# Altium footprint library IPC-7359 QFN_Sq_50P_Side_N.PcbLib: 92 footprints (part 5 of 6)
Each footprint in its own frame and in the unit in brackets; x right, y up, seen from the top. Pads: shape width x height; smd on the part's side, far side on the other; paste and mask are expansions set on the pad; w line width, h text height; cw(c..) or ccw(c..) is an arc to the next point about the centre after c.
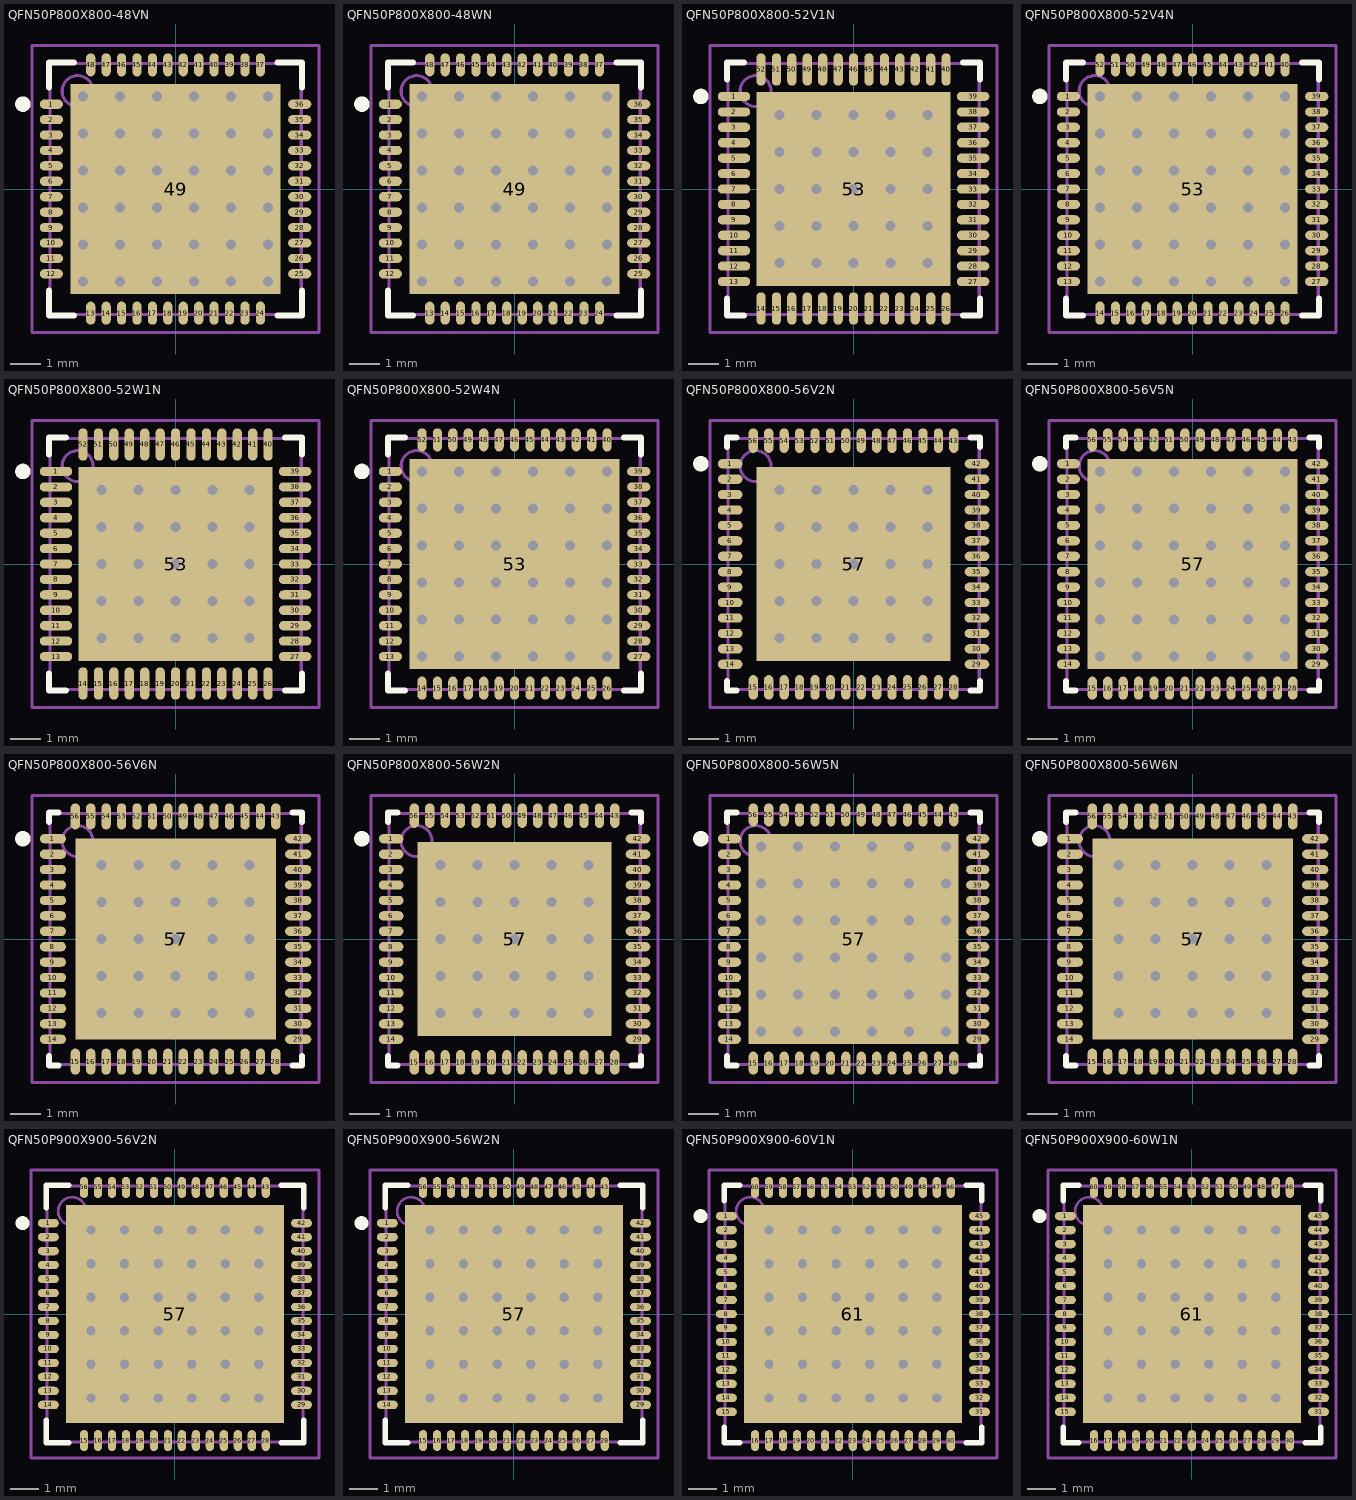
[diagram p4: the footprints below, top view; thin cyan lines are the x and y axes]

## QFN50P800X800-48VN [mm] "QFN, 48-Leads, Body 8x8mm, Pitch 0.5mm, IPC Medium Density"
height 1
pads (49):
  oval 0.75x0.3 smd: 1(-4.025,2.75) 2(-4.025,2.25) 3(-4.025,1.75) 4(-4.025,1.25) 5(-4.025,0.75) 6(-4.025,0.25) 7(-4.025,-0.25) 8(-4.025,-0.75) 9(-4.025,-1.25) 10(-4.025,-1.75) 11(-4.025,-2.25) 12(-4.025,-2.75) 25(4.025,-2.75) 26(4.025,-2.25) 27(4.025,-1.75) 28(4.025,-1.25) 29(4.025,-0.75) 30(4.025,-0.25) 31(4.025,0.25) 32(4.025,0.75) 33(4.025,1.25) 34(4.025,1.75) 35(4.025,2.25) 36(4.025,2.75)
  oval 0.3x0.75 smd: 13(-2.75,-4.025) 14(-2.25,-4.025) 15(-1.75,-4.025) 16(-1.25,-4.025) 17(-0.75,-4.025) 18(-0.25,-4.025) 19(0.25,-4.025) 20(0.75,-4.025) 21(1.25,-4.025) 22(1.75,-4.025) 23(2.25,-4.025) 24(2.75,-4.025) 37(2.75,4.025) 38(2.25,4.025) 39(1.75,4.025) 40(1.25,4.025) 41(0.75,4.025) 42(0.25,4.025) 43(-0.25,4.025) 44(-0.75,4.025) 45(-1.25,4.025) 46(-1.75,4.025) 47(-2.25,4.025) 48(-2.75,4.025)
  rect 6.8x6.8 smd: 49(0,0)
via 3,-3 diameter 0.66 hole 0.33
via 1.8,-3 diameter 0.66 hole 0.33
via 0.6,-3 diameter 0.66 hole 0.33
via -0.6,-3 diameter 0.66 hole 0.33
via -1.8,-3 diameter 0.66 hole 0.33
via -3,-3 diameter 0.66 hole 0.33
via 3,-1.8 diameter 0.66 hole 0.33
via 1.8,-1.8 diameter 0.66 hole 0.33
via 0.6,-1.8 diameter 0.66 hole 0.33
via -0.6,-1.8 diameter 0.66 hole 0.33
via -1.8,-1.8 diameter 0.66 hole 0.33
via -3,-1.8 diameter 0.66 hole 0.33
via 3,-0.6 diameter 0.66 hole 0.33
via 1.8,-0.6 diameter 0.66 hole 0.33
via 0.6,-0.6 diameter 0.66 hole 0.33
via -0.6,-0.6 diameter 0.66 hole 0.33
via -1.8,-0.6 diameter 0.66 hole 0.33
via -3,-0.6 diameter 0.66 hole 0.33
via 3,0.6 diameter 0.66 hole 0.33
via 1.8,0.6 diameter 0.66 hole 0.33
via 0.6,0.6 diameter 0.66 hole 0.33
via -0.6,0.6 diameter 0.66 hole 0.33
via -1.8,0.6 diameter 0.66 hole 0.33
via -3,0.6 diameter 0.66 hole 0.33
via 3,1.8 diameter 0.66 hole 0.33
via 1.8,1.8 diameter 0.66 hole 0.33
via 0.6,1.8 diameter 0.66 hole 0.33
via -0.6,1.8 diameter 0.66 hole 0.33
via -1.8,1.8 diameter 0.66 hole 0.33
via -3,1.8 diameter 0.66 hole 0.33
via 3,3 diameter 0.66 hole 0.33
via 1.8,3 diameter 0.66 hole 0.33
via 0.6,3 diameter 0.66 hole 0.33
via -0.6,3 diameter 0.66 hole 0.33
via -1.8,3 diameter 0.66 hole 0.33
via -3,3 diameter 0.66 hole 0.33
Top Overlay:
  circle w0.25: c-4.95,2.75 r0.125
  lines w0.2: -4.1,-3.3 -4.1,-4.1 -3.3,-4.1 ; -4.1,3.3 -4.1,4.1 -3.3,4.1 ; 3.3,-4.1 4.1,-4.1 4.1,-3.3 ; 3.3,4.1 4.1,4.1 4.1,3.3
Mechanical 13:
  circle w0.1: c-3.175,3.175 r0.5
  lines w0.1: -4.075,-4.075 4.075,-4.075 4.075,4.075 -4.075,4.075 -4.075,-4.075
Mechanical 15:
  lines w0.1: -0.5,0 0.5,0 ; 0,-0.5 0,0.5 ; -4.65,-4.65 4.65,-4.65 4.65,4.65 -4.65,4.65 -4.65,-4.65
3D body: height 1, standoff 0, extent -4.075,-4.075 4.075,4.075

## QFN50P800X800-48WN [mm] "QFN, 48-Leads, Body 8x8mm, Pitch 0.5mm, IPC Medium Density"
height 0.8
pads (49):
  oval 0.75x0.3 smd: 1(-4.025,2.75) 2(-4.025,2.25) 3(-4.025,1.75) 4(-4.025,1.25) 5(-4.025,0.75) 6(-4.025,0.25) 7(-4.025,-0.25) 8(-4.025,-0.75) 9(-4.025,-1.25) 10(-4.025,-1.75) 11(-4.025,-2.25) 12(-4.025,-2.75) 25(4.025,-2.75) 26(4.025,-2.25) 27(4.025,-1.75) 28(4.025,-1.25) 29(4.025,-0.75) 30(4.025,-0.25) 31(4.025,0.25) 32(4.025,0.75) 33(4.025,1.25) 34(4.025,1.75) 35(4.025,2.25) 36(4.025,2.75)
  oval 0.3x0.75 smd: 13(-2.75,-4.025) 14(-2.25,-4.025) 15(-1.75,-4.025) 16(-1.25,-4.025) 17(-0.75,-4.025) 18(-0.25,-4.025) 19(0.25,-4.025) 20(0.75,-4.025) 21(1.25,-4.025) 22(1.75,-4.025) 23(2.25,-4.025) 24(2.75,-4.025) 37(2.75,4.025) 38(2.25,4.025) 39(1.75,4.025) 40(1.25,4.025) 41(0.75,4.025) 42(0.25,4.025) 43(-0.25,4.025) 44(-0.75,4.025) 45(-1.25,4.025) 46(-1.75,4.025) 47(-2.25,4.025) 48(-2.75,4.025)
  rect 6.8x6.8 smd: 49(0,0)
via 3,-3 diameter 0.66 hole 0.33
via 1.8,-3 diameter 0.66 hole 0.33
via 0.6,-3 diameter 0.66 hole 0.33
via -0.6,-3 diameter 0.66 hole 0.33
via -1.8,-3 diameter 0.66 hole 0.33
via -3,-3 diameter 0.66 hole 0.33
via 3,-1.8 diameter 0.66 hole 0.33
via 1.8,-1.8 diameter 0.66 hole 0.33
via 0.6,-1.8 diameter 0.66 hole 0.33
via -0.6,-1.8 diameter 0.66 hole 0.33
via -1.8,-1.8 diameter 0.66 hole 0.33
via -3,-1.8 diameter 0.66 hole 0.33
via 3,-0.6 diameter 0.66 hole 0.33
via 1.8,-0.6 diameter 0.66 hole 0.33
via 0.6,-0.6 diameter 0.66 hole 0.33
via -0.6,-0.6 diameter 0.66 hole 0.33
via -1.8,-0.6 diameter 0.66 hole 0.33
via -3,-0.6 diameter 0.66 hole 0.33
via 3,0.6 diameter 0.66 hole 0.33
via 1.8,0.6 diameter 0.66 hole 0.33
via 0.6,0.6 diameter 0.66 hole 0.33
via -0.6,0.6 diameter 0.66 hole 0.33
via -1.8,0.6 diameter 0.66 hole 0.33
via -3,0.6 diameter 0.66 hole 0.33
via 3,1.8 diameter 0.66 hole 0.33
via 1.8,1.8 diameter 0.66 hole 0.33
via 0.6,1.8 diameter 0.66 hole 0.33
via -0.6,1.8 diameter 0.66 hole 0.33
via -1.8,1.8 diameter 0.66 hole 0.33
via -3,1.8 diameter 0.66 hole 0.33
via 3,3 diameter 0.66 hole 0.33
via 1.8,3 diameter 0.66 hole 0.33
via 0.6,3 diameter 0.66 hole 0.33
via -0.6,3 diameter 0.66 hole 0.33
via -1.8,3 diameter 0.66 hole 0.33
via -3,3 diameter 0.66 hole 0.33
Top Overlay:
  circle w0.25: c-4.95,2.75 r0.125
  lines w0.2: -4.1,-3.3 -4.1,-4.1 -3.3,-4.1 ; -4.1,3.3 -4.1,4.1 -3.3,4.1 ; 3.3,-4.1 4.1,-4.1 4.1,-3.3 ; 3.3,4.1 4.1,4.1 4.1,3.3
Mechanical 13:
  circle w0.1: c-3.175,3.175 r0.5
  lines w0.1: -4.075,-4.075 4.075,-4.075 4.075,4.075 -4.075,4.075 -4.075,-4.075
Mechanical 15:
  lines w0.1: -0.5,0 0.5,0 ; 0,-0.5 0,0.5 ; -4.65,-4.65 4.65,-4.65 4.65,4.65 -4.65,4.65 -4.65,-4.65
3D body: height 0.8, standoff 0, extent -4.075,-4.075 4.075,4.075

## QFN50P800X800-52V1N [mm] "QFN, 52-Leads, Body 8x8mm, Pitch 0.5mm, IPC Medium Density"
height 1
pads (53):
  oval 1.05x0.3 smd: 1(-3.875,3) 2(-3.875,2.5) 3(-3.875,2) 4(-3.875,1.5) 5(-3.875,1) 6(-3.875,0.5) 7(-3.875,0) 8(-3.875,-0.5) 9(-3.875,-1) 10(-3.875,-1.5) 11(-3.875,-2) 12(-3.875,-2.5) 13(-3.875,-3) 27(3.875,-3) 28(3.875,-2.5) 29(3.875,-2) 30(3.875,-1.5) 31(3.875,-1) 32(3.875,-0.5) 33(3.875,0) 34(3.875,0.5) 35(3.875,1) 36(3.875,1.5) 37(3.875,2) 38(3.875,2.5) 39(3.875,3)
  oval 0.3x1.05 smd: 14(-3,-3.875) 15(-2.5,-3.875) 16(-2,-3.875) 17(-1.5,-3.875) 18(-1,-3.875) 19(-0.5,-3.875) 20(0,-3.875) 21(0.5,-3.875) 22(1,-3.875) 23(1.5,-3.875) 24(2,-3.875) 25(2.5,-3.875) 26(3,-3.875) 40(3,3.875) 41(2.5,3.875) 42(2,3.875) 43(1.5,3.875) 44(1,3.875) 45(0.5,3.875) 46(0,3.875) 47(-0.5,3.875) 48(-1,3.875) 49(-1.5,3.875) 50(-2,3.875) 51(-2.5,3.875) 52(-3,3.875)
  rect 6.3x6.3 smd: 53(0,0)
via 2.4,-2.4 diameter 0.66 hole 0.33
via 1.2,-2.4 diameter 0.66 hole 0.33
via 0,-2.4 diameter 0.66 hole 0.33
via -1.2,-2.4 diameter 0.66 hole 0.33
via -2.4,-2.4 diameter 0.66 hole 0.33
via 2.4,-1.2 diameter 0.66 hole 0.33
via 1.2,-1.2 diameter 0.66 hole 0.33
via 0,-1.2 diameter 0.66 hole 0.33
via -1.2,-1.2 diameter 0.66 hole 0.33
via -2.4,-1.2 diameter 0.66 hole 0.33
via 2.4,0 diameter 0.66 hole 0.33
via 1.2,0 diameter 0.66 hole 0.33
via 0,0 diameter 0.66 hole 0.33
via -1.2,0 diameter 0.66 hole 0.33
via -2.4,0 diameter 0.66 hole 0.33
via 2.4,1.2 diameter 0.66 hole 0.33
via 1.2,1.2 diameter 0.66 hole 0.33
via 0,1.2 diameter 0.66 hole 0.33
via -1.2,1.2 diameter 0.66 hole 0.33
via -2.4,1.2 diameter 0.66 hole 0.33
via 2.4,2.4 diameter 0.66 hole 0.33
via 1.2,2.4 diameter 0.66 hole 0.33
via 0,2.4 diameter 0.66 hole 0.33
via -1.2,2.4 diameter 0.66 hole 0.33
via -2.4,2.4 diameter 0.66 hole 0.33
Top Overlay:
  circle w0.25: c-4.95,3 r0.125
  lines w0.2: -4.1,-3.55 -4.1,-4.1 -3.55,-4.1 ; -4.1,3.55 -4.1,4.1 -3.55,4.1 ; 3.55,-4.1 4.1,-4.1 4.1,-3.55 ; 3.55,4.1 4.1,4.1 4.1,3.55
Mechanical 13:
  circle w0.1: c-3.175,3.175 r0.5
  lines w0.1: -4.075,-4.075 4.075,-4.075 4.075,4.075 -4.075,4.075 -4.075,-4.075
Mechanical 15:
  lines w0.1: -0.5,0 0.5,0 ; 0,-0.5 0,0.5 ; -4.65,-4.65 4.65,-4.65 4.65,4.65 -4.65,4.65 -4.65,-4.65
3D body: height 1, standoff 0, extent -4.075,-4.075 4.075,4.075

## QFN50P800X800-52V4N [mm] "QFN, 52-Leads, Body 8x8mm, Pitch 0.5mm, IPC Medium Density"
height 1
pads (53):
  oval 0.75x0.3 smd: 1(-4.025,3) 2(-4.025,2.5) 3(-4.025,2) 4(-4.025,1.5) 5(-4.025,1) 6(-4.025,0.5) 7(-4.025,0) 8(-4.025,-0.5) 9(-4.025,-1) 10(-4.025,-1.5) 11(-4.025,-2) 12(-4.025,-2.5) 13(-4.025,-3) 27(4.025,-3) 28(4.025,-2.5) 29(4.025,-2) 30(4.025,-1.5) 31(4.025,-1) 32(4.025,-0.5) 33(4.025,0) 34(4.025,0.5) 35(4.025,1) 36(4.025,1.5) 37(4.025,2) 38(4.025,2.5) 39(4.025,3)
  oval 0.3x0.75 smd: 14(-3,-4.025) 15(-2.5,-4.025) 16(-2,-4.025) 17(-1.5,-4.025) 18(-1,-4.025) 19(-0.5,-4.025) 20(0,-4.025) 21(0.5,-4.025) 22(1,-4.025) 23(1.5,-4.025) 24(2,-4.025) 25(2.5,-4.025) 26(3,-4.025) 40(3,4.025) 41(2.5,4.025) 42(2,4.025) 43(1.5,4.025) 44(1,4.025) 45(0.5,4.025) 46(0,4.025) 47(-0.5,4.025) 48(-1,4.025) 49(-1.5,4.025) 50(-2,4.025) 51(-2.5,4.025) 52(-3,4.025)
  rect 6.8x6.8 smd: 53(0,0)
via 3,-3 diameter 0.66 hole 0.33
via 1.8,-3 diameter 0.66 hole 0.33
via 0.6,-3 diameter 0.66 hole 0.33
via -0.6,-3 diameter 0.66 hole 0.33
via -1.8,-3 diameter 0.66 hole 0.33
via -3,-3 diameter 0.66 hole 0.33
via 3,-1.8 diameter 0.66 hole 0.33
via 1.8,-1.8 diameter 0.66 hole 0.33
via 0.6,-1.8 diameter 0.66 hole 0.33
via -0.6,-1.8 diameter 0.66 hole 0.33
via -1.8,-1.8 diameter 0.66 hole 0.33
via -3,-1.8 diameter 0.66 hole 0.33
via 3,-0.6 diameter 0.66 hole 0.33
via 1.8,-0.6 diameter 0.66 hole 0.33
via 0.6,-0.6 diameter 0.66 hole 0.33
via -0.6,-0.6 diameter 0.66 hole 0.33
via -1.8,-0.6 diameter 0.66 hole 0.33
via -3,-0.6 diameter 0.66 hole 0.33
via 3,0.6 diameter 0.66 hole 0.33
via 1.8,0.6 diameter 0.66 hole 0.33
via 0.6,0.6 diameter 0.66 hole 0.33
via -0.6,0.6 diameter 0.66 hole 0.33
via -1.8,0.6 diameter 0.66 hole 0.33
via -3,0.6 diameter 0.66 hole 0.33
via 3,1.8 diameter 0.66 hole 0.33
via 1.8,1.8 diameter 0.66 hole 0.33
via 0.6,1.8 diameter 0.66 hole 0.33
via -0.6,1.8 diameter 0.66 hole 0.33
via -1.8,1.8 diameter 0.66 hole 0.33
via -3,1.8 diameter 0.66 hole 0.33
via 3,3 diameter 0.66 hole 0.33
via 1.8,3 diameter 0.66 hole 0.33
via 0.6,3 diameter 0.66 hole 0.33
via -0.6,3 diameter 0.66 hole 0.33
via -1.8,3 diameter 0.66 hole 0.33
via -3,3 diameter 0.66 hole 0.33
Top Overlay:
  circle w0.25: c-4.95,3 r0.125
  lines w0.2: -4.1,-3.55 -4.1,-4.1 -3.55,-4.1 ; -4.1,3.55 -4.1,4.1 -3.55,4.1 ; 3.55,-4.1 4.1,-4.1 4.1,-3.55 ; 3.55,4.1 4.1,4.1 4.1,3.55
Mechanical 13:
  circle w0.1: c-3.175,3.175 r0.5
  lines w0.1: -4.075,-4.075 4.075,-4.075 4.075,4.075 -4.075,4.075 -4.075,-4.075
Mechanical 15:
  lines w0.1: -0.5,0 0.5,0 ; 0,-0.5 0,0.5 ; -4.65,-4.65 4.65,-4.65 4.65,4.65 -4.65,4.65 -4.65,-4.65
3D body: height 1, standoff 0, extent -4.075,-4.075 4.075,4.075

## QFN50P800X800-52W1N [mm] "QFN, 52-Leads, Body 8x8mm, Pitch 0.5mm, IPC Medium Density"
height 0.8
pads (53):
  oval 1.05x0.3 smd: 1(-3.875,3) 2(-3.875,2.5) 3(-3.875,2) 4(-3.875,1.5) 5(-3.875,1) 6(-3.875,0.5) 7(-3.875,0) 8(-3.875,-0.5) 9(-3.875,-1) 10(-3.875,-1.5) 11(-3.875,-2) 12(-3.875,-2.5) 13(-3.875,-3) 27(3.875,-3) 28(3.875,-2.5) 29(3.875,-2) 30(3.875,-1.5) 31(3.875,-1) 32(3.875,-0.5) 33(3.875,0) 34(3.875,0.5) 35(3.875,1) 36(3.875,1.5) 37(3.875,2) 38(3.875,2.5) 39(3.875,3)
  oval 0.3x1.05 smd: 14(-3,-3.875) 15(-2.5,-3.875) 16(-2,-3.875) 17(-1.5,-3.875) 18(-1,-3.875) 19(-0.5,-3.875) 20(0,-3.875) 21(0.5,-3.875) 22(1,-3.875) 23(1.5,-3.875) 24(2,-3.875) 25(2.5,-3.875) 26(3,-3.875) 40(3,3.875) 41(2.5,3.875) 42(2,3.875) 43(1.5,3.875) 44(1,3.875) 45(0.5,3.875) 46(0,3.875) 47(-0.5,3.875) 48(-1,3.875) 49(-1.5,3.875) 50(-2,3.875) 51(-2.5,3.875) 52(-3,3.875)
  rect 6.3x6.3 smd: 53(0,0)
via 2.4,-2.4 diameter 0.66 hole 0.33
via 1.2,-2.4 diameter 0.66 hole 0.33
via 0,-2.4 diameter 0.66 hole 0.33
via -1.2,-2.4 diameter 0.66 hole 0.33
via -2.4,-2.4 diameter 0.66 hole 0.33
via 2.4,-1.2 diameter 0.66 hole 0.33
via 1.2,-1.2 diameter 0.66 hole 0.33
via 0,-1.2 diameter 0.66 hole 0.33
via -1.2,-1.2 diameter 0.66 hole 0.33
via -2.4,-1.2 diameter 0.66 hole 0.33
via 2.4,0 diameter 0.66 hole 0.33
via 1.2,0 diameter 0.66 hole 0.33
via 0,0 diameter 0.66 hole 0.33
via -1.2,0 diameter 0.66 hole 0.33
via -2.4,0 diameter 0.66 hole 0.33
via 2.4,1.2 diameter 0.66 hole 0.33
via 1.2,1.2 diameter 0.66 hole 0.33
via 0,1.2 diameter 0.66 hole 0.33
via -1.2,1.2 diameter 0.66 hole 0.33
via -2.4,1.2 diameter 0.66 hole 0.33
via 2.4,2.4 diameter 0.66 hole 0.33
via 1.2,2.4 diameter 0.66 hole 0.33
via 0,2.4 diameter 0.66 hole 0.33
via -1.2,2.4 diameter 0.66 hole 0.33
via -2.4,2.4 diameter 0.66 hole 0.33
Top Overlay:
  circle w0.25: c-4.95,3 r0.125
  lines w0.2: -4.1,-3.55 -4.1,-4.1 -3.55,-4.1 ; -4.1,3.55 -4.1,4.1 -3.55,4.1 ; 3.55,-4.1 4.1,-4.1 4.1,-3.55 ; 3.55,4.1 4.1,4.1 4.1,3.55
Mechanical 13:
  circle w0.1: c-3.175,3.175 r0.5
  lines w0.1: -4.075,-4.075 4.075,-4.075 4.075,4.075 -4.075,4.075 -4.075,-4.075
Mechanical 15:
  lines w0.1: -0.5,0 0.5,0 ; 0,-0.5 0,0.5 ; -4.65,-4.65 4.65,-4.65 4.65,4.65 -4.65,4.65 -4.65,-4.65
3D body: height 0.8, standoff 0, extent -4.075,-4.075 4.075,4.075

## QFN50P800X800-52W4N [mm] "QFN, 52-Leads, Body 8x8mm, Pitch 0.5mm, IPC Medium Density"
height 0.8
pads (53):
  oval 0.75x0.3 smd: 1(-4.025,3) 2(-4.025,2.5) 3(-4.025,2) 4(-4.025,1.5) 5(-4.025,1) 6(-4.025,0.5) 7(-4.025,0) 8(-4.025,-0.5) 9(-4.025,-1) 10(-4.025,-1.5) 11(-4.025,-2) 12(-4.025,-2.5) 13(-4.025,-3) 27(4.025,-3) 28(4.025,-2.5) 29(4.025,-2) 30(4.025,-1.5) 31(4.025,-1) 32(4.025,-0.5) 33(4.025,0) 34(4.025,0.5) 35(4.025,1) 36(4.025,1.5) 37(4.025,2) 38(4.025,2.5) 39(4.025,3)
  oval 0.3x0.75 smd: 14(-3,-4.025) 15(-2.5,-4.025) 16(-2,-4.025) 17(-1.5,-4.025) 18(-1,-4.025) 19(-0.5,-4.025) 20(0,-4.025) 21(0.5,-4.025) 22(1,-4.025) 23(1.5,-4.025) 24(2,-4.025) 25(2.5,-4.025) 26(3,-4.025) 40(3,4.025) 41(2.5,4.025) 42(2,4.025) 43(1.5,4.025) 44(1,4.025) 45(0.5,4.025) 46(0,4.025) 47(-0.5,4.025) 48(-1,4.025) 49(-1.5,4.025) 50(-2,4.025) 51(-2.5,4.025) 52(-3,4.025)
  rect 6.8x6.8 smd: 53(0,0)
via 3,-3 diameter 0.66 hole 0.33
via 1.8,-3 diameter 0.66 hole 0.33
via 0.6,-3 diameter 0.66 hole 0.33
via -0.6,-3 diameter 0.66 hole 0.33
via -1.8,-3 diameter 0.66 hole 0.33
via -3,-3 diameter 0.66 hole 0.33
via 3,-1.8 diameter 0.66 hole 0.33
via 1.8,-1.8 diameter 0.66 hole 0.33
via 0.6,-1.8 diameter 0.66 hole 0.33
via -0.6,-1.8 diameter 0.66 hole 0.33
via -1.8,-1.8 diameter 0.66 hole 0.33
via -3,-1.8 diameter 0.66 hole 0.33
via 3,-0.6 diameter 0.66 hole 0.33
via 1.8,-0.6 diameter 0.66 hole 0.33
via 0.6,-0.6 diameter 0.66 hole 0.33
via -0.6,-0.6 diameter 0.66 hole 0.33
via -1.8,-0.6 diameter 0.66 hole 0.33
via -3,-0.6 diameter 0.66 hole 0.33
via 3,0.6 diameter 0.66 hole 0.33
via 1.8,0.6 diameter 0.66 hole 0.33
via 0.6,0.6 diameter 0.66 hole 0.33
via -0.6,0.6 diameter 0.66 hole 0.33
via -1.8,0.6 diameter 0.66 hole 0.33
via -3,0.6 diameter 0.66 hole 0.33
via 3,1.8 diameter 0.66 hole 0.33
via 1.8,1.8 diameter 0.66 hole 0.33
via 0.6,1.8 diameter 0.66 hole 0.33
via -0.6,1.8 diameter 0.66 hole 0.33
via -1.8,1.8 diameter 0.66 hole 0.33
via -3,1.8 diameter 0.66 hole 0.33
via 3,3 diameter 0.66 hole 0.33
via 1.8,3 diameter 0.66 hole 0.33
via 0.6,3 diameter 0.66 hole 0.33
via -0.6,3 diameter 0.66 hole 0.33
via -1.8,3 diameter 0.66 hole 0.33
via -3,3 diameter 0.66 hole 0.33
Top Overlay:
  circle w0.25: c-4.95,3 r0.125
  lines w0.2: -4.1,-3.55 -4.1,-4.1 -3.55,-4.1 ; -4.1,3.55 -4.1,4.1 -3.55,4.1 ; 3.55,-4.1 4.1,-4.1 4.1,-3.55 ; 3.55,4.1 4.1,4.1 4.1,3.55
Mechanical 13:
  circle w0.1: c-3.175,3.175 r0.5
  lines w0.1: -4.075,-4.075 4.075,-4.075 4.075,4.075 -4.075,4.075 -4.075,-4.075
Mechanical 15:
  lines w0.1: -0.5,0 0.5,0 ; 0,-0.5 0,0.5 ; -4.65,-4.65 4.65,-4.65 4.65,4.65 -4.65,4.65 -4.65,-4.65
3D body: height 0.8, standoff 0, extent -4.075,-4.075 4.075,4.075

## QFN50P800X800-56V2N [mm] "QFN, 56-Leads, Body 8x8mm, Pitch 0.5mm, IPC Medium Density"
height 1
pads (57):
  oval 0.8x0.3 smd: 1(-4,3.25) 2(-4,2.75) 3(-4,2.25) 4(-4,1.75) 5(-4,1.25) 6(-4,0.75) 7(-4,0.25) 8(-4,-0.25) 9(-4,-0.75) 10(-4,-1.25) 11(-4,-1.75) 12(-4,-2.25) 13(-4,-2.75) 14(-4,-3.25) 29(4,-3.25) 30(4,-2.75) 31(4,-2.25) 32(4,-1.75) 33(4,-1.25) 34(4,-0.75) 35(4,-0.25) 36(4,0.25) 37(4,0.75) 38(4,1.25) 39(4,1.75) 40(4,2.25) 41(4,2.75) 42(4,3.25)
  oval 0.3x0.8 smd: 15(-3.25,-4) 16(-2.75,-4) 17(-2.25,-4) 18(-1.75,-4) 19(-1.25,-4) 20(-0.75,-4) 21(-0.25,-4) 22(0.25,-4) 23(0.75,-4) 24(1.25,-4) 25(1.75,-4) 26(2.25,-4) 27(2.75,-4) 28(3.25,-4) 43(3.25,4) 44(2.75,4) 45(2.25,4) 46(1.75,4) 47(1.25,4) 48(0.75,4) 49(0.25,4) 50(-0.25,4) 51(-0.75,4) 52(-1.25,4) 53(-1.75,4) 54(-2.25,4) 55(-2.75,4) 56(-3.25,4)
  rect 6.3x6.3 smd: 57(0,0)
via 2.4,-2.4 diameter 0.66 hole 0.33
via 1.2,-2.4 diameter 0.66 hole 0.33
via 0,-2.4 diameter 0.66 hole 0.33
via -1.2,-2.4 diameter 0.66 hole 0.33
via -2.4,-2.4 diameter 0.66 hole 0.33
via 2.4,-1.2 diameter 0.66 hole 0.33
via 1.2,-1.2 diameter 0.66 hole 0.33
via 0,-1.2 diameter 0.66 hole 0.33
via -1.2,-1.2 diameter 0.66 hole 0.33
via -2.4,-1.2 diameter 0.66 hole 0.33
via 2.4,0 diameter 0.66 hole 0.33
via 1.2,0 diameter 0.66 hole 0.33
via 0,0 diameter 0.66 hole 0.33
via -1.2,0 diameter 0.66 hole 0.33
via -2.4,0 diameter 0.66 hole 0.33
via 2.4,1.2 diameter 0.66 hole 0.33
via 1.2,1.2 diameter 0.66 hole 0.33
via 0,1.2 diameter 0.66 hole 0.33
via -1.2,1.2 diameter 0.66 hole 0.33
via -2.4,1.2 diameter 0.66 hole 0.33
via 2.4,2.4 diameter 0.66 hole 0.33
via 1.2,2.4 diameter 0.66 hole 0.33
via 0,2.4 diameter 0.66 hole 0.33
via -1.2,2.4 diameter 0.66 hole 0.33
via -2.4,2.4 diameter 0.66 hole 0.33
Top Overlay:
  circle w0.25: c-4.95,3.25 r0.125
  lines w0.2: -4.1,-3.8 -4.1,-4.1 -3.8,-4.1 ; -4.1,3.8 -4.1,4.1 -3.8,4.1 ; 3.8,-4.1 4.1,-4.1 4.1,-3.8 ; 3.8,4.1 4.1,4.1 4.1,3.8
Mechanical 13:
  circle w0.1: c-3.175,3.175 r0.5
  lines w0.1: -4.075,-4.075 4.075,-4.075 4.075,4.075 -4.075,4.075 -4.075,-4.075
Mechanical 15:
  lines w0.1: -0.5,0 0.5,0 ; 0,-0.5 0,0.5 ; -4.65,-4.65 4.65,-4.65 4.65,4.65 -4.65,4.65 -4.65,-4.65
3D body: height 1, standoff 0, extent -4.075,-4.075 4.075,4.075

## QFN50P800X800-56V5N [mm] "QFN, 56-Leads, Body 8x8mm, Pitch 0.5mm, IPC Medium Density"
height 1
pads (57):
  oval 0.75x0.3 smd: 1(-4.025,3.25) 2(-4.025,2.75) 3(-4.025,2.25) 4(-4.025,1.75) 5(-4.025,1.25) 6(-4.025,0.75) 7(-4.025,0.25) 8(-4.025,-0.25) 9(-4.025,-0.75) 10(-4.025,-1.25) 11(-4.025,-1.75) 12(-4.025,-2.25) 13(-4.025,-2.75) 14(-4.025,-3.25) 29(4.025,-3.25) 30(4.025,-2.75) 31(4.025,-2.25) 32(4.025,-1.75) 33(4.025,-1.25) 34(4.025,-0.75) 35(4.025,-0.25) 36(4.025,0.25) 37(4.025,0.75) 38(4.025,1.25) 39(4.025,1.75) 40(4.025,2.25) 41(4.025,2.75) 42(4.025,3.25)
  oval 0.3x0.75 smd: 15(-3.25,-4.025) 16(-2.75,-4.025) 17(-2.25,-4.025) 18(-1.75,-4.025) 19(-1.25,-4.025) 20(-0.75,-4.025) 21(-0.25,-4.025) 22(0.25,-4.025) 23(0.75,-4.025) 24(1.25,-4.025) 25(1.75,-4.025) 26(2.25,-4.025) 27(2.75,-4.025) 28(3.25,-4.025) 43(3.25,4.025) 44(2.75,4.025) 45(2.25,4.025) 46(1.75,4.025) 47(1.25,4.025) 48(0.75,4.025) 49(0.25,4.025) 50(-0.25,4.025) 51(-0.75,4.025) 52(-1.25,4.025) 53(-1.75,4.025) 54(-2.25,4.025) 55(-2.75,4.025) 56(-3.25,4.025)
  rect 6.8x6.8 smd: 57(0,0)
via 3,-3 diameter 0.66 hole 0.33
via 1.8,-3 diameter 0.66 hole 0.33
via 0.6,-3 diameter 0.66 hole 0.33
via -0.6,-3 diameter 0.66 hole 0.33
via -1.8,-3 diameter 0.66 hole 0.33
via -3,-3 diameter 0.66 hole 0.33
via 3,-1.8 diameter 0.66 hole 0.33
via 1.8,-1.8 diameter 0.66 hole 0.33
via 0.6,-1.8 diameter 0.66 hole 0.33
via -0.6,-1.8 diameter 0.66 hole 0.33
via -1.8,-1.8 diameter 0.66 hole 0.33
via -3,-1.8 diameter 0.66 hole 0.33
via 3,-0.6 diameter 0.66 hole 0.33
via 1.8,-0.6 diameter 0.66 hole 0.33
via 0.6,-0.6 diameter 0.66 hole 0.33
via -0.6,-0.6 diameter 0.66 hole 0.33
via -1.8,-0.6 diameter 0.66 hole 0.33
via -3,-0.6 diameter 0.66 hole 0.33
via 3,0.6 diameter 0.66 hole 0.33
via 1.8,0.6 diameter 0.66 hole 0.33
via 0.6,0.6 diameter 0.66 hole 0.33
via -0.6,0.6 diameter 0.66 hole 0.33
via -1.8,0.6 diameter 0.66 hole 0.33
via -3,0.6 diameter 0.66 hole 0.33
via 3,1.8 diameter 0.66 hole 0.33
via 1.8,1.8 diameter 0.66 hole 0.33
via 0.6,1.8 diameter 0.66 hole 0.33
via -0.6,1.8 diameter 0.66 hole 0.33
via -1.8,1.8 diameter 0.66 hole 0.33
via -3,1.8 diameter 0.66 hole 0.33
via 3,3 diameter 0.66 hole 0.33
via 1.8,3 diameter 0.66 hole 0.33
via 0.6,3 diameter 0.66 hole 0.33
via -0.6,3 diameter 0.66 hole 0.33
via -1.8,3 diameter 0.66 hole 0.33
via -3,3 diameter 0.66 hole 0.33
Top Overlay:
  circle w0.25: c-4.95,3.25 r0.125
  lines w0.2: -4.1,-3.8 -4.1,-4.1 -3.8,-4.1 ; -4.1,3.8 -4.1,4.1 -3.8,4.1 ; 3.8,-4.1 4.1,-4.1 4.1,-3.8 ; 3.8,4.1 4.1,4.1 4.1,3.8
Mechanical 13:
  circle w0.1: c-3.175,3.175 r0.5
  lines w0.1: -4.075,-4.075 4.075,-4.075 4.075,4.075 -4.075,4.075 -4.075,-4.075
Mechanical 15:
  lines w0.1: -0.5,0 0.5,0 ; 0,-0.5 0,0.5 ; -4.65,-4.65 4.65,-4.65 4.65,4.65 -4.65,4.65 -4.65,-4.65
3D body: height 1, standoff 0, extent -4.075,-4.075 4.075,4.075

## QFN50P800X800-56V6N [mm] "QFN, 56-Leads, Body 8x8mm, Pitch 0.5mm, IPC Medium Density"
height 1
pads (57):
  oval 0.85x0.3 smd: 1(-3.975,3.25) 2(-3.975,2.75) 3(-3.975,2.25) 4(-3.975,1.75) 5(-3.975,1.25) 6(-3.975,0.75) 7(-3.975,0.25) 8(-3.975,-0.25) 9(-3.975,-0.75) 10(-3.975,-1.25) 11(-3.975,-1.75) 12(-3.975,-2.25) 13(-3.975,-2.75) 14(-3.975,-3.25) 29(3.975,-3.25) 30(3.975,-2.75) 31(3.975,-2.25) 32(3.975,-1.75) 33(3.975,-1.25) 34(3.975,-0.75) 35(3.975,-0.25) 36(3.975,0.25) 37(3.975,0.75) 38(3.975,1.25) 39(3.975,1.75) 40(3.975,2.25) 41(3.975,2.75) 42(3.975,3.25)
  oval 0.3x0.85 smd: 15(-3.25,-3.975) 16(-2.75,-3.975) 17(-2.25,-3.975) 18(-1.75,-3.975) 19(-1.25,-3.975) 20(-0.75,-3.975) 21(-0.25,-3.975) 22(0.25,-3.975) 23(0.75,-3.975) 24(1.25,-3.975) 25(1.75,-3.975) 26(2.25,-3.975) 27(2.75,-3.975) 28(3.25,-3.975) 43(3.25,3.975) 44(2.75,3.975) 45(2.25,3.975) 46(1.75,3.975) 47(1.25,3.975) 48(0.75,3.975) 49(0.25,3.975) 50(-0.25,3.975) 51(-0.75,3.975) 52(-1.25,3.975) 53(-1.75,3.975) 54(-2.25,3.975) 55(-2.75,3.975) 56(-3.25,3.975)
  rect 6.5x6.5 smd: 57(0,0)
via 2.4,-2.4 diameter 0.66 hole 0.33
via 1.2,-2.4 diameter 0.66 hole 0.33
via 0,-2.4 diameter 0.66 hole 0.33
via -1.2,-2.4 diameter 0.66 hole 0.33
via -2.4,-2.4 diameter 0.66 hole 0.33
via 2.4,-1.2 diameter 0.66 hole 0.33
via 1.2,-1.2 diameter 0.66 hole 0.33
via 0,-1.2 diameter 0.66 hole 0.33
via -1.2,-1.2 diameter 0.66 hole 0.33
via -2.4,-1.2 diameter 0.66 hole 0.33
via 2.4,0 diameter 0.66 hole 0.33
via 1.2,0 diameter 0.66 hole 0.33
via 0,0 diameter 0.66 hole 0.33
via -1.2,0 diameter 0.66 hole 0.33
via -2.4,0 diameter 0.66 hole 0.33
via 2.4,1.2 diameter 0.66 hole 0.33
via 1.2,1.2 diameter 0.66 hole 0.33
via 0,1.2 diameter 0.66 hole 0.33
via -1.2,1.2 diameter 0.66 hole 0.33
via -2.4,1.2 diameter 0.66 hole 0.33
via 2.4,2.4 diameter 0.66 hole 0.33
via 1.2,2.4 diameter 0.66 hole 0.33
via 0,2.4 diameter 0.66 hole 0.33
via -1.2,2.4 diameter 0.66 hole 0.33
via -2.4,2.4 diameter 0.66 hole 0.33
Top Overlay:
  circle w0.25: c-4.95,3.25 r0.125
  lines w0.2: -4.1,-3.8 -4.1,-4.1 -3.8,-4.1 ; -4.1,3.8 -4.1,4.1 -3.8,4.1 ; 3.8,-4.1 4.1,-4.1 4.1,-3.8 ; 3.8,4.1 4.1,4.1 4.1,3.8
Mechanical 13:
  circle w0.1: c-3.175,3.175 r0.5
  lines w0.1: -4.075,-4.075 4.075,-4.075 4.075,4.075 -4.075,4.075 -4.075,-4.075
Mechanical 15:
  lines w0.1: -0.5,0 0.5,0 ; 0,-0.5 0,0.5 ; -4.65,-4.65 4.65,-4.65 4.65,4.65 -4.65,4.65 -4.65,-4.65
3D body: height 1, standoff 0, extent -4.075,-4.075 4.075,4.075

## QFN50P800X800-56W2N [mm] "QFN, 56-Leads, Body 8x8mm, Pitch 0.5mm, IPC Medium Density"
height 0.8
pads (57):
  oval 0.8x0.3 smd: 1(-4,3.25) 2(-4,2.75) 3(-4,2.25) 4(-4,1.75) 5(-4,1.25) 6(-4,0.75) 7(-4,0.25) 8(-4,-0.25) 9(-4,-0.75) 10(-4,-1.25) 11(-4,-1.75) 12(-4,-2.25) 13(-4,-2.75) 14(-4,-3.25) 29(4,-3.25) 30(4,-2.75) 31(4,-2.25) 32(4,-1.75) 33(4,-1.25) 34(4,-0.75) 35(4,-0.25) 36(4,0.25) 37(4,0.75) 38(4,1.25) 39(4,1.75) 40(4,2.25) 41(4,2.75) 42(4,3.25)
  oval 0.3x0.8 smd: 15(-3.25,-4) 16(-2.75,-4) 17(-2.25,-4) 18(-1.75,-4) 19(-1.25,-4) 20(-0.75,-4) 21(-0.25,-4) 22(0.25,-4) 23(0.75,-4) 24(1.25,-4) 25(1.75,-4) 26(2.25,-4) 27(2.75,-4) 28(3.25,-4) 43(3.25,4) 44(2.75,4) 45(2.25,4) 46(1.75,4) 47(1.25,4) 48(0.75,4) 49(0.25,4) 50(-0.25,4) 51(-0.75,4) 52(-1.25,4) 53(-1.75,4) 54(-2.25,4) 55(-2.75,4) 56(-3.25,4)
  rect 6.3x6.3 smd: 57(0,0)
via 2.4,-2.4 diameter 0.66 hole 0.33
via 1.2,-2.4 diameter 0.66 hole 0.33
via 0,-2.4 diameter 0.66 hole 0.33
via -1.2,-2.4 diameter 0.66 hole 0.33
via -2.4,-2.4 diameter 0.66 hole 0.33
via 2.4,-1.2 diameter 0.66 hole 0.33
via 1.2,-1.2 diameter 0.66 hole 0.33
via 0,-1.2 diameter 0.66 hole 0.33
via -1.2,-1.2 diameter 0.66 hole 0.33
via -2.4,-1.2 diameter 0.66 hole 0.33
via 2.4,0 diameter 0.66 hole 0.33
via 1.2,0 diameter 0.66 hole 0.33
via 0,0 diameter 0.66 hole 0.33
via -1.2,0 diameter 0.66 hole 0.33
via -2.4,0 diameter 0.66 hole 0.33
via 2.4,1.2 diameter 0.66 hole 0.33
via 1.2,1.2 diameter 0.66 hole 0.33
via 0,1.2 diameter 0.66 hole 0.33
via -1.2,1.2 diameter 0.66 hole 0.33
via -2.4,1.2 diameter 0.66 hole 0.33
via 2.4,2.4 diameter 0.66 hole 0.33
via 1.2,2.4 diameter 0.66 hole 0.33
via 0,2.4 diameter 0.66 hole 0.33
via -1.2,2.4 diameter 0.66 hole 0.33
via -2.4,2.4 diameter 0.66 hole 0.33
Top Overlay:
  circle w0.25: c-4.95,3.25 r0.125
  lines w0.2: -4.1,-3.8 -4.1,-4.1 -3.8,-4.1 ; -4.1,3.8 -4.1,4.1 -3.8,4.1 ; 3.8,-4.1 4.1,-4.1 4.1,-3.8 ; 3.8,4.1 4.1,4.1 4.1,3.8
Mechanical 13:
  circle w0.1: c-3.175,3.175 r0.5
  lines w0.1: -4.075,-4.075 4.075,-4.075 4.075,4.075 -4.075,4.075 -4.075,-4.075
Mechanical 15:
  lines w0.1: -0.5,0 0.5,0 ; 0,-0.5 0,0.5 ; -4.65,-4.65 4.65,-4.65 4.65,4.65 -4.65,4.65 -4.65,-4.65
3D body: height 0.8, standoff 0, extent -4.075,-4.075 4.075,4.075

## QFN50P800X800-56W5N [mm] "QFN, 56-Leads, Body 8x8mm, Pitch 0.5mm, IPC Medium Density"
height 0.8
pads (57):
  oval 0.75x0.3 smd: 1(-4.025,3.25) 2(-4.025,2.75) 3(-4.025,2.25) 4(-4.025,1.75) 5(-4.025,1.25) 6(-4.025,0.75) 7(-4.025,0.25) 8(-4.025,-0.25) 9(-4.025,-0.75) 10(-4.025,-1.25) 11(-4.025,-1.75) 12(-4.025,-2.25) 13(-4.025,-2.75) 14(-4.025,-3.25) 29(4.025,-3.25) 30(4.025,-2.75) 31(4.025,-2.25) 32(4.025,-1.75) 33(4.025,-1.25) 34(4.025,-0.75) 35(4.025,-0.25) 36(4.025,0.25) 37(4.025,0.75) 38(4.025,1.25) 39(4.025,1.75) 40(4.025,2.25) 41(4.025,2.75) 42(4.025,3.25)
  oval 0.3x0.75 smd: 15(-3.25,-4.025) 16(-2.75,-4.025) 17(-2.25,-4.025) 18(-1.75,-4.025) 19(-1.25,-4.025) 20(-0.75,-4.025) 21(-0.25,-4.025) 22(0.25,-4.025) 23(0.75,-4.025) 24(1.25,-4.025) 25(1.75,-4.025) 26(2.25,-4.025) 27(2.75,-4.025) 28(3.25,-4.025) 43(3.25,4.025) 44(2.75,4.025) 45(2.25,4.025) 46(1.75,4.025) 47(1.25,4.025) 48(0.75,4.025) 49(0.25,4.025) 50(-0.25,4.025) 51(-0.75,4.025) 52(-1.25,4.025) 53(-1.75,4.025) 54(-2.25,4.025) 55(-2.75,4.025) 56(-3.25,4.025)
  rect 6.8x6.8 smd: 57(0,0)
via 3,-3 diameter 0.66 hole 0.33
via 1.8,-3 diameter 0.66 hole 0.33
via 0.6,-3 diameter 0.66 hole 0.33
via -0.6,-3 diameter 0.66 hole 0.33
via -1.8,-3 diameter 0.66 hole 0.33
via -3,-3 diameter 0.66 hole 0.33
via 3,-1.8 diameter 0.66 hole 0.33
via 1.8,-1.8 diameter 0.66 hole 0.33
via 0.6,-1.8 diameter 0.66 hole 0.33
via -0.6,-1.8 diameter 0.66 hole 0.33
via -1.8,-1.8 diameter 0.66 hole 0.33
via -3,-1.8 diameter 0.66 hole 0.33
via 3,-0.6 diameter 0.66 hole 0.33
via 1.8,-0.6 diameter 0.66 hole 0.33
via 0.6,-0.6 diameter 0.66 hole 0.33
via -0.6,-0.6 diameter 0.66 hole 0.33
via -1.8,-0.6 diameter 0.66 hole 0.33
via -3,-0.6 diameter 0.66 hole 0.33
via 3,0.6 diameter 0.66 hole 0.33
via 1.8,0.6 diameter 0.66 hole 0.33
via 0.6,0.6 diameter 0.66 hole 0.33
via -0.6,0.6 diameter 0.66 hole 0.33
via -1.8,0.6 diameter 0.66 hole 0.33
via -3,0.6 diameter 0.66 hole 0.33
via 3,1.8 diameter 0.66 hole 0.33
via 1.8,1.8 diameter 0.66 hole 0.33
via 0.6,1.8 diameter 0.66 hole 0.33
via -0.6,1.8 diameter 0.66 hole 0.33
via -1.8,1.8 diameter 0.66 hole 0.33
via -3,1.8 diameter 0.66 hole 0.33
via 3,3 diameter 0.66 hole 0.33
via 1.8,3 diameter 0.66 hole 0.33
via 0.6,3 diameter 0.66 hole 0.33
via -0.6,3 diameter 0.66 hole 0.33
via -1.8,3 diameter 0.66 hole 0.33
via -3,3 diameter 0.66 hole 0.33
Top Overlay:
  circle w0.25: c-4.95,3.25 r0.125
  lines w0.2: -4.1,-3.8 -4.1,-4.1 -3.8,-4.1 ; -4.1,3.8 -4.1,4.1 -3.8,4.1 ; 3.8,-4.1 4.1,-4.1 4.1,-3.8 ; 3.8,4.1 4.1,4.1 4.1,3.8
Mechanical 13:
  circle w0.1: c-3.175,3.175 r0.5
  lines w0.1: -4.075,-4.075 4.075,-4.075 4.075,4.075 -4.075,4.075 -4.075,-4.075
Mechanical 15:
  lines w0.1: -0.5,0 0.5,0 ; 0,-0.5 0,0.5 ; -4.65,-4.65 4.65,-4.65 4.65,4.65 -4.65,4.65 -4.65,-4.65
3D body: height 0.8, standoff 0, extent -4.075,-4.075 4.075,4.075

## QFN50P800X800-56W6N [mm] "QFN, 56-Leads, Body 8x8mm, Pitch 0.5mm, IPC Medium Density"
height 0.8
pads (57):
  oval 0.85x0.3 smd: 1(-3.975,3.25) 2(-3.975,2.75) 3(-3.975,2.25) 4(-3.975,1.75) 5(-3.975,1.25) 6(-3.975,0.75) 7(-3.975,0.25) 8(-3.975,-0.25) 9(-3.975,-0.75) 10(-3.975,-1.25) 11(-3.975,-1.75) 12(-3.975,-2.25) 13(-3.975,-2.75) 14(-3.975,-3.25) 29(3.975,-3.25) 30(3.975,-2.75) 31(3.975,-2.25) 32(3.975,-1.75) 33(3.975,-1.25) 34(3.975,-0.75) 35(3.975,-0.25) 36(3.975,0.25) 37(3.975,0.75) 38(3.975,1.25) 39(3.975,1.75) 40(3.975,2.25) 41(3.975,2.75) 42(3.975,3.25)
  oval 0.3x0.85 smd: 15(-3.25,-3.975) 16(-2.75,-3.975) 17(-2.25,-3.975) 18(-1.75,-3.975) 19(-1.25,-3.975) 20(-0.75,-3.975) 21(-0.25,-3.975) 22(0.25,-3.975) 23(0.75,-3.975) 24(1.25,-3.975) 25(1.75,-3.975) 26(2.25,-3.975) 27(2.75,-3.975) 28(3.25,-3.975) 43(3.25,3.975) 44(2.75,3.975) 45(2.25,3.975) 46(1.75,3.975) 47(1.25,3.975) 48(0.75,3.975) 49(0.25,3.975) 50(-0.25,3.975) 51(-0.75,3.975) 52(-1.25,3.975) 53(-1.75,3.975) 54(-2.25,3.975) 55(-2.75,3.975) 56(-3.25,3.975)
  rect 6.5x6.5 smd: 57(0,0)
via 2.4,-2.4 diameter 0.66 hole 0.33
via 1.2,-2.4 diameter 0.66 hole 0.33
via 0,-2.4 diameter 0.66 hole 0.33
via -1.2,-2.4 diameter 0.66 hole 0.33
via -2.4,-2.4 diameter 0.66 hole 0.33
via 2.4,-1.2 diameter 0.66 hole 0.33
via 1.2,-1.2 diameter 0.66 hole 0.33
via 0,-1.2 diameter 0.66 hole 0.33
via -1.2,-1.2 diameter 0.66 hole 0.33
via -2.4,-1.2 diameter 0.66 hole 0.33
via 2.4,0 diameter 0.66 hole 0.33
via 1.2,0 diameter 0.66 hole 0.33
via 0,0 diameter 0.66 hole 0.33
via -1.2,0 diameter 0.66 hole 0.33
via -2.4,0 diameter 0.66 hole 0.33
via 2.4,1.2 diameter 0.66 hole 0.33
via 1.2,1.2 diameter 0.66 hole 0.33
via 0,1.2 diameter 0.66 hole 0.33
via -1.2,1.2 diameter 0.66 hole 0.33
via -2.4,1.2 diameter 0.66 hole 0.33
via 2.4,2.4 diameter 0.66 hole 0.33
via 1.2,2.4 diameter 0.66 hole 0.33
via 0,2.4 diameter 0.66 hole 0.33
via -1.2,2.4 diameter 0.66 hole 0.33
via -2.4,2.4 diameter 0.66 hole 0.33
Top Overlay:
  circle w0.25: c-4.95,3.25 r0.125
  lines w0.2: -4.1,-3.8 -4.1,-4.1 -3.8,-4.1 ; -4.1,3.8 -4.1,4.1 -3.8,4.1 ; 3.8,-4.1 4.1,-4.1 4.1,-3.8 ; 3.8,4.1 4.1,4.1 4.1,3.8
Mechanical 13:
  circle w0.1: c-3.175,3.175 r0.5
  lines w0.1: -4.075,-4.075 4.075,-4.075 4.075,4.075 -4.075,4.075 -4.075,-4.075
Mechanical 15:
  lines w0.1: -0.5,0 0.5,0 ; 0,-0.5 0,0.5 ; -4.65,-4.65 4.65,-4.65 4.65,4.65 -4.65,4.65 -4.65,-4.65
3D body: height 0.8, standoff 0, extent -4.075,-4.075 4.075,4.075

## QFN50P900X900-56V2N [mm] "QFN, 56-Leads, Body 9x9mm, Pitch 0.5mm, IPC Medium Density"
height 1
pads (57):
  oval 0.75x0.3 smd: 1(-4.525,3.25) 2(-4.525,2.75) 3(-4.525,2.25) 4(-4.525,1.75) 5(-4.525,1.25) 6(-4.525,0.75) 7(-4.525,0.25) 8(-4.525,-0.25) 9(-4.525,-0.75) 10(-4.525,-1.25) 11(-4.525,-1.75) 12(-4.525,-2.25) 13(-4.525,-2.75) 14(-4.525,-3.25) 29(4.525,-3.25) 30(4.525,-2.75) 31(4.525,-2.25) 32(4.525,-1.75) 33(4.525,-1.25) 34(4.525,-0.75) 35(4.525,-0.25) 36(4.525,0.25) 37(4.525,0.75) 38(4.525,1.25) 39(4.525,1.75) 40(4.525,2.25) 41(4.525,2.75) 42(4.525,3.25)
  oval 0.3x0.75 smd: 15(-3.25,-4.525) 16(-2.75,-4.525) 17(-2.25,-4.525) 18(-1.75,-4.525) 19(-1.25,-4.525) 20(-0.75,-4.525) 21(-0.25,-4.525) 22(0.25,-4.525) 23(0.75,-4.525) 24(1.25,-4.525) 25(1.75,-4.525) 26(2.25,-4.525) 27(2.75,-4.525) 28(3.25,-4.525) 43(3.25,4.525) 44(2.75,4.525) 45(2.25,4.525) 46(1.75,4.525) 47(1.25,4.525) 48(0.75,4.525) 49(0.25,4.525) 50(-0.25,4.525) 51(-0.75,4.525) 52(-1.25,4.525) 53(-1.75,4.525) 54(-2.25,4.525) 55(-2.75,4.525) 56(-3.25,4.525)
  rect 7.8x7.8 smd: 57(0,0)
via 3,-3 diameter 0.66 hole 0.33
via 1.8,-3 diameter 0.66 hole 0.33
via 0.6,-3 diameter 0.66 hole 0.33
via -0.6,-3 diameter 0.66 hole 0.33
via -1.8,-3 diameter 0.66 hole 0.33
via -3,-3 diameter 0.66 hole 0.33
via 3,-1.8 diameter 0.66 hole 0.33
via 1.8,-1.8 diameter 0.66 hole 0.33
via 0.6,-1.8 diameter 0.66 hole 0.33
via -0.6,-1.8 diameter 0.66 hole 0.33
via -1.8,-1.8 diameter 0.66 hole 0.33
via -3,-1.8 diameter 0.66 hole 0.33
via 3,-0.6 diameter 0.66 hole 0.33
via 1.8,-0.6 diameter 0.66 hole 0.33
via 0.6,-0.6 diameter 0.66 hole 0.33
via -0.6,-0.6 diameter 0.66 hole 0.33
via -1.8,-0.6 diameter 0.66 hole 0.33
via -3,-0.6 diameter 0.66 hole 0.33
via 3,0.6 diameter 0.66 hole 0.33
via 1.8,0.6 diameter 0.66 hole 0.33
via 0.6,0.6 diameter 0.66 hole 0.33
via -0.6,0.6 diameter 0.66 hole 0.33
via -1.8,0.6 diameter 0.66 hole 0.33
via -3,0.6 diameter 0.66 hole 0.33
via 3,1.8 diameter 0.66 hole 0.33
via 1.8,1.8 diameter 0.66 hole 0.33
via 0.6,1.8 diameter 0.66 hole 0.33
via -0.6,1.8 diameter 0.66 hole 0.33
via -1.8,1.8 diameter 0.66 hole 0.33
via -3,1.8 diameter 0.66 hole 0.33
via 3,3 diameter 0.66 hole 0.33
via 1.8,3 diameter 0.66 hole 0.33
via 0.6,3 diameter 0.66 hole 0.33
via -0.6,3 diameter 0.66 hole 0.33
via -1.8,3 diameter 0.66 hole 0.33
via -3,3 diameter 0.66 hole 0.33
Top Overlay:
  circle w0.25: c-5.45,3.25 r0.125
  lines w0.2: -4.6,-3.8 -4.6,-4.6 -3.8,-4.6 ; -4.6,3.8 -4.6,4.6 -3.8,4.6 ; 3.8,-4.6 4.6,-4.6 4.6,-3.8 ; 3.8,4.6 4.6,4.6 4.6,3.8
Mechanical 13:
  circle w0.1: c-3.675,3.675 r0.5
  lines w0.1: -4.575,-4.575 4.575,-4.575 4.575,4.575 -4.575,4.575 -4.575,-4.575
Mechanical 15:
  lines w0.1: -0.5,0 0.5,0 ; 0,-0.5 0,0.5 ; -5.15,-5.15 5.15,-5.15 5.15,5.15 -5.15,5.15 -5.15,-5.15
3D body: height 1, standoff 0, extent -4.575,-4.575 4.575,4.575

## QFN50P900X900-56W2N [mm] "QFN, 56-Leads, Body 9x9mm, Pitch 0.5mm, IPC Medium Density"
height 0.8
pads (57):
  oval 0.75x0.3 smd: 1(-4.525,3.25) 2(-4.525,2.75) 3(-4.525,2.25) 4(-4.525,1.75) 5(-4.525,1.25) 6(-4.525,0.75) 7(-4.525,0.25) 8(-4.525,-0.25) 9(-4.525,-0.75) 10(-4.525,-1.25) 11(-4.525,-1.75) 12(-4.525,-2.25) 13(-4.525,-2.75) 14(-4.525,-3.25) 29(4.525,-3.25) 30(4.525,-2.75) 31(4.525,-2.25) 32(4.525,-1.75) 33(4.525,-1.25) 34(4.525,-0.75) 35(4.525,-0.25) 36(4.525,0.25) 37(4.525,0.75) 38(4.525,1.25) 39(4.525,1.75) 40(4.525,2.25) 41(4.525,2.75) 42(4.525,3.25)
  oval 0.3x0.75 smd: 15(-3.25,-4.525) 16(-2.75,-4.525) 17(-2.25,-4.525) 18(-1.75,-4.525) 19(-1.25,-4.525) 20(-0.75,-4.525) 21(-0.25,-4.525) 22(0.25,-4.525) 23(0.75,-4.525) 24(1.25,-4.525) 25(1.75,-4.525) 26(2.25,-4.525) 27(2.75,-4.525) 28(3.25,-4.525) 43(3.25,4.525) 44(2.75,4.525) 45(2.25,4.525) 46(1.75,4.525) 47(1.25,4.525) 48(0.75,4.525) 49(0.25,4.525) 50(-0.25,4.525) 51(-0.75,4.525) 52(-1.25,4.525) 53(-1.75,4.525) 54(-2.25,4.525) 55(-2.75,4.525) 56(-3.25,4.525)
  rect 7.8x7.8 smd: 57(0,0)
via 3,-3 diameter 0.66 hole 0.33
via 1.8,-3 diameter 0.66 hole 0.33
via 0.6,-3 diameter 0.66 hole 0.33
via -0.6,-3 diameter 0.66 hole 0.33
via -1.8,-3 diameter 0.66 hole 0.33
via -3,-3 diameter 0.66 hole 0.33
via 3,-1.8 diameter 0.66 hole 0.33
via 1.8,-1.8 diameter 0.66 hole 0.33
via 0.6,-1.8 diameter 0.66 hole 0.33
via -0.6,-1.8 diameter 0.66 hole 0.33
via -1.8,-1.8 diameter 0.66 hole 0.33
via -3,-1.8 diameter 0.66 hole 0.33
via 3,-0.6 diameter 0.66 hole 0.33
via 1.8,-0.6 diameter 0.66 hole 0.33
via 0.6,-0.6 diameter 0.66 hole 0.33
via -0.6,-0.6 diameter 0.66 hole 0.33
via -1.8,-0.6 diameter 0.66 hole 0.33
via -3,-0.6 diameter 0.66 hole 0.33
via 3,0.6 diameter 0.66 hole 0.33
via 1.8,0.6 diameter 0.66 hole 0.33
via 0.6,0.6 diameter 0.66 hole 0.33
via -0.6,0.6 diameter 0.66 hole 0.33
via -1.8,0.6 diameter 0.66 hole 0.33
via -3,0.6 diameter 0.66 hole 0.33
via 3,1.8 diameter 0.66 hole 0.33
via 1.8,1.8 diameter 0.66 hole 0.33
via 0.6,1.8 diameter 0.66 hole 0.33
via -0.6,1.8 diameter 0.66 hole 0.33
via -1.8,1.8 diameter 0.66 hole 0.33
via -3,1.8 diameter 0.66 hole 0.33
via 3,3 diameter 0.66 hole 0.33
via 1.8,3 diameter 0.66 hole 0.33
via 0.6,3 diameter 0.66 hole 0.33
via -0.6,3 diameter 0.66 hole 0.33
via -1.8,3 diameter 0.66 hole 0.33
via -3,3 diameter 0.66 hole 0.33
Top Overlay:
  circle w0.25: c-5.45,3.25 r0.125
  lines w0.2: -4.6,-3.8 -4.6,-4.6 -3.8,-4.6 ; -4.6,3.8 -4.6,4.6 -3.8,4.6 ; 3.8,-4.6 4.6,-4.6 4.6,-3.8 ; 3.8,4.6 4.6,4.6 4.6,3.8
Mechanical 13:
  circle w0.1: c-3.675,3.675 r0.5
  lines w0.1: -4.575,-4.575 4.575,-4.575 4.575,4.575 -4.575,4.575 -4.575,-4.575
Mechanical 15:
  lines w0.1: -0.5,0 0.5,0 ; 0,-0.5 0,0.5 ; -5.15,-5.15 5.15,-5.15 5.15,5.15 -5.15,5.15 -5.15,-5.15
3D body: height 0.8, standoff 0, extent -4.575,-4.575 4.575,4.575

## QFN50P900X900-60V1N [mm] "QFN, 60-Leads, Body 9x9mm, Pitch 0.5mm, IPC Medium Density"
height 1
pads (61):
  oval 0.75x0.3 smd: 1(-4.525,3.5) 2(-4.525,3) 3(-4.525,2.5) 4(-4.525,2) 5(-4.525,1.5) 6(-4.525,1) 7(-4.525,0.5) 8(-4.525,0) 9(-4.525,-0.5) 10(-4.525,-1) 11(-4.525,-1.5) 12(-4.525,-2) 13(-4.525,-2.5) 14(-4.525,-3) 15(-4.525,-3.5) 31(4.525,-3.5) 32(4.525,-3) 33(4.525,-2.5) 34(4.525,-2) 35(4.525,-1.5) 36(4.525,-1) 37(4.525,-0.5) 38(4.525,0) 39(4.525,0.5) 40(4.525,1) 41(4.525,1.5) 42(4.525,2) 43(4.525,2.5) 44(4.525,3) 45(4.525,3.5)
  oval 0.3x0.75 smd: 16(-3.5,-4.525) 17(-3,-4.525) 18(-2.5,-4.525) 19(-2,-4.525) 20(-1.5,-4.525) 21(-1,-4.525) 22(-0.5,-4.525) 23(0,-4.525) 24(0.5,-4.525) 25(1,-4.525) 26(1.5,-4.525) 27(2,-4.525) 28(2.5,-4.525) 29(3,-4.525) 30(3.5,-4.525) 46(3.5,4.525) 47(3,4.525) 48(2.5,4.525) 49(2,4.525) 50(1.5,4.525) 51(1,4.525) 52(0.5,4.525) 53(0,4.525) 54(-0.5,4.525) 55(-1,4.525) 56(-1.5,4.525) 57(-2,4.525) 58(-2.5,4.525) 59(-3,4.525) 60(-3.5,4.525)
  rect 7.8x7.8 smd: 61(0,0)
via 3,-3 diameter 0.66 hole 0.33
via 1.8,-3 diameter 0.66 hole 0.33
via 0.6,-3 diameter 0.66 hole 0.33
via -0.6,-3 diameter 0.66 hole 0.33
via -1.8,-3 diameter 0.66 hole 0.33
via -3,-3 diameter 0.66 hole 0.33
via 3,-1.8 diameter 0.66 hole 0.33
via 1.8,-1.8 diameter 0.66 hole 0.33
via 0.6,-1.8 diameter 0.66 hole 0.33
via -0.6,-1.8 diameter 0.66 hole 0.33
via -1.8,-1.8 diameter 0.66 hole 0.33
via -3,-1.8 diameter 0.66 hole 0.33
via 3,-0.6 diameter 0.66 hole 0.33
via 1.8,-0.6 diameter 0.66 hole 0.33
via 0.6,-0.6 diameter 0.66 hole 0.33
via -0.6,-0.6 diameter 0.66 hole 0.33
via -1.8,-0.6 diameter 0.66 hole 0.33
via -3,-0.6 diameter 0.66 hole 0.33
via 3,0.6 diameter 0.66 hole 0.33
via 1.8,0.6 diameter 0.66 hole 0.33
via 0.6,0.6 diameter 0.66 hole 0.33
via -0.6,0.6 diameter 0.66 hole 0.33
via -1.8,0.6 diameter 0.66 hole 0.33
via -3,0.6 diameter 0.66 hole 0.33
via 3,1.8 diameter 0.66 hole 0.33
via 1.8,1.8 diameter 0.66 hole 0.33
via 0.6,1.8 diameter 0.66 hole 0.33
via -0.6,1.8 diameter 0.66 hole 0.33
via -1.8,1.8 diameter 0.66 hole 0.33
via -3,1.8 diameter 0.66 hole 0.33
via 3,3 diameter 0.66 hole 0.33
via 1.8,3 diameter 0.66 hole 0.33
via 0.6,3 diameter 0.66 hole 0.33
via -0.6,3 diameter 0.66 hole 0.33
via -1.8,3 diameter 0.66 hole 0.33
via -3,3 diameter 0.66 hole 0.33
Top Overlay:
  circle w0.25: c-5.45,3.5 r0.125
  lines w0.2: -4.6,-4.05 -4.6,-4.6 -4.05,-4.6 ; -4.6,4.05 -4.6,4.6 -4.05,4.6 ; 4.05,-4.6 4.6,-4.6 4.6,-4.05 ; 4.05,4.6 4.6,4.6 4.6,4.05
Mechanical 13:
  circle w0.1: c-3.675,3.675 r0.5
  lines w0.1: -4.575,-4.575 4.575,-4.575 4.575,4.575 -4.575,4.575 -4.575,-4.575
Mechanical 15:
  lines w0.1: -0.5,0 0.5,0 ; 0,-0.5 0,0.5 ; -5.15,-5.15 5.15,-5.15 5.15,5.15 -5.15,5.15 -5.15,-5.15
3D body: height 1, standoff 0, extent -4.575,-4.575 4.575,4.575

## QFN50P900X900-60W1N [mm] "QFN, 60-Leads, Body 9x9mm, Pitch 0.5mm, IPC Medium Density"
height 0.8
pads (61):
  oval 0.75x0.3 smd: 1(-4.525,3.5) 2(-4.525,3) 3(-4.525,2.5) 4(-4.525,2) 5(-4.525,1.5) 6(-4.525,1) 7(-4.525,0.5) 8(-4.525,0) 9(-4.525,-0.5) 10(-4.525,-1) 11(-4.525,-1.5) 12(-4.525,-2) 13(-4.525,-2.5) 14(-4.525,-3) 15(-4.525,-3.5) 31(4.525,-3.5) 32(4.525,-3) 33(4.525,-2.5) 34(4.525,-2) 35(4.525,-1.5) 36(4.525,-1) 37(4.525,-0.5) 38(4.525,0) 39(4.525,0.5) 40(4.525,1) 41(4.525,1.5) 42(4.525,2) 43(4.525,2.5) 44(4.525,3) 45(4.525,3.5)
  oval 0.3x0.75 smd: 16(-3.5,-4.525) 17(-3,-4.525) 18(-2.5,-4.525) 19(-2,-4.525) 20(-1.5,-4.525) 21(-1,-4.525) 22(-0.5,-4.525) 23(0,-4.525) 24(0.5,-4.525) 25(1,-4.525) 26(1.5,-4.525) 27(2,-4.525) 28(2.5,-4.525) 29(3,-4.525) 30(3.5,-4.525) 46(3.5,4.525) 47(3,4.525) 48(2.5,4.525) 49(2,4.525) 50(1.5,4.525) 51(1,4.525) 52(0.5,4.525) 53(0,4.525) 54(-0.5,4.525) 55(-1,4.525) 56(-1.5,4.525) 57(-2,4.525) 58(-2.5,4.525) 59(-3,4.525) 60(-3.5,4.525)
  rect 7.8x7.8 smd: 61(0,0)
via 3,-3 diameter 0.66 hole 0.33
via 1.8,-3 diameter 0.66 hole 0.33
via 0.6,-3 diameter 0.66 hole 0.33
via -0.6,-3 diameter 0.66 hole 0.33
via -1.8,-3 diameter 0.66 hole 0.33
via -3,-3 diameter 0.66 hole 0.33
via 3,-1.8 diameter 0.66 hole 0.33
via 1.8,-1.8 diameter 0.66 hole 0.33
via 0.6,-1.8 diameter 0.66 hole 0.33
via -0.6,-1.8 diameter 0.66 hole 0.33
via -1.8,-1.8 diameter 0.66 hole 0.33
via -3,-1.8 diameter 0.66 hole 0.33
via 3,-0.6 diameter 0.66 hole 0.33
via 1.8,-0.6 diameter 0.66 hole 0.33
via 0.6,-0.6 diameter 0.66 hole 0.33
via -0.6,-0.6 diameter 0.66 hole 0.33
via -1.8,-0.6 diameter 0.66 hole 0.33
via -3,-0.6 diameter 0.66 hole 0.33
via 3,0.6 diameter 0.66 hole 0.33
via 1.8,0.6 diameter 0.66 hole 0.33
via 0.6,0.6 diameter 0.66 hole 0.33
via -0.6,0.6 diameter 0.66 hole 0.33
via -1.8,0.6 diameter 0.66 hole 0.33
via -3,0.6 diameter 0.66 hole 0.33
via 3,1.8 diameter 0.66 hole 0.33
via 1.8,1.8 diameter 0.66 hole 0.33
via 0.6,1.8 diameter 0.66 hole 0.33
via -0.6,1.8 diameter 0.66 hole 0.33
via -1.8,1.8 diameter 0.66 hole 0.33
via -3,1.8 diameter 0.66 hole 0.33
via 3,3 diameter 0.66 hole 0.33
via 1.8,3 diameter 0.66 hole 0.33
via 0.6,3 diameter 0.66 hole 0.33
via -0.6,3 diameter 0.66 hole 0.33
via -1.8,3 diameter 0.66 hole 0.33
via -3,3 diameter 0.66 hole 0.33
Top Overlay:
  circle w0.25: c-5.45,3.5 r0.125
  lines w0.2: -4.6,-4.05 -4.6,-4.6 -4.05,-4.6 ; -4.6,4.05 -4.6,4.6 -4.05,4.6 ; 4.05,-4.6 4.6,-4.6 4.6,-4.05 ; 4.05,4.6 4.6,4.6 4.6,4.05
Mechanical 13:
  circle w0.1: c-3.675,3.675 r0.5
  lines w0.1: -4.575,-4.575 4.575,-4.575 4.575,4.575 -4.575,4.575 -4.575,-4.575
Mechanical 15:
  lines w0.1: -0.5,0 0.5,0 ; 0,-0.5 0,0.5 ; -5.15,-5.15 5.15,-5.15 5.15,5.15 -5.15,5.15 -5.15,-5.15
3D body: height 0.8, standoff 0, extent -4.575,-4.575 4.575,4.575